# Altium footprint library BNX024H01L.PcbLib: 1 footprints
Each footprint in its own frame and in the unit in brackets; x right, y up, seen from the top. Pads: shape width x height; smd on the part's side, far side on the other; paste and mask are expansions set on the pad; w line width, h text height; cw(c..) or ccw(c..) is an arc to the next point about the centre after c.
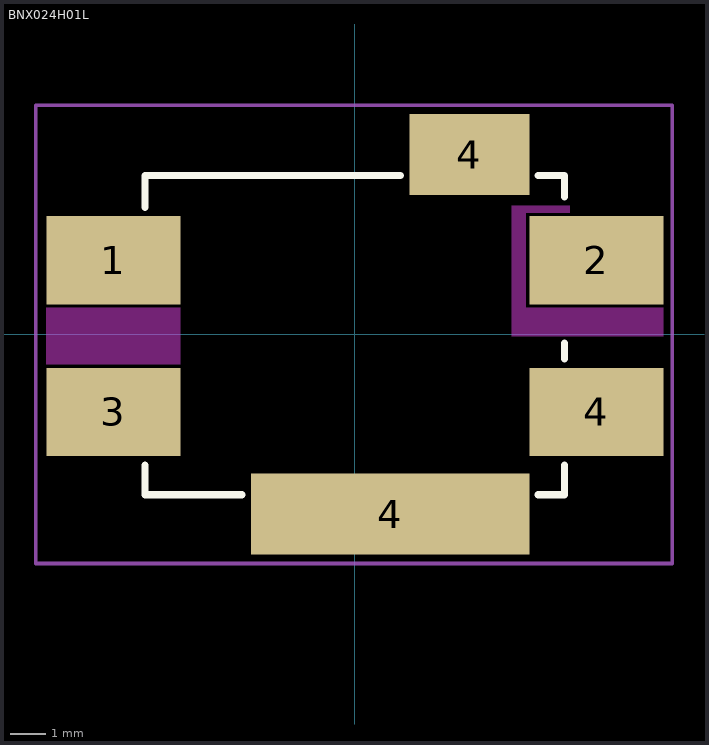
[diagram p0: the footprint, top view; thin cyan lines are the x and y axes]

## BNX024H01L [mm]
pads (6):
  rect 3.8x2.5 smd: 1(-6.85,2.1) 2(6.85,2.1) 3(-6.85,-2.2) 4(6.85,-2.2)
  rect 7.9x2.3 smd: 4(1,-5.1)
  rect 3.4x2.3 smd: 4(3.25,5.1)
Top Layer keep-out:
  region: -8.75,0.75 -4.95,0.75 -4.95,-0.85 -8.75,-0.85
  region: 6.1,3.65 6.1,3.45 4.85,3.45 4.85,0.75 8.75,0.75 8.75,-0.05 4.45,-0.05 4.45,3.65
Top Overlay:
  lines w0.2: -5.95,-3.7 -5.95,-4.55 -3.2,-4.55 ; -5.95,3.6 -5.95,4.5 1.3,4.5 ; 5.2,-4.55 5.95,-4.55 5.95,-3.7 ; 5.2,4.5 5.95,4.5 5.95,3.9 ; 5.95,-0.7 5.95,-0.25
Top Courtyard:
  lines w0.1: -9.05,-6.5 -9.05,6.5 9,6.5 9,-6.5 -7.125,-6.5 -9.05,-6.5
3D body "BNX024H01L.stp": height 3.51, standoff 0, extent -6.04,-4.55 6.04,4.55